# EAGLE library part OLIMEX_IC_PCF8563 (library A13-OLinuXino_WIFI_Rev_G)
Real-time clock/calendar
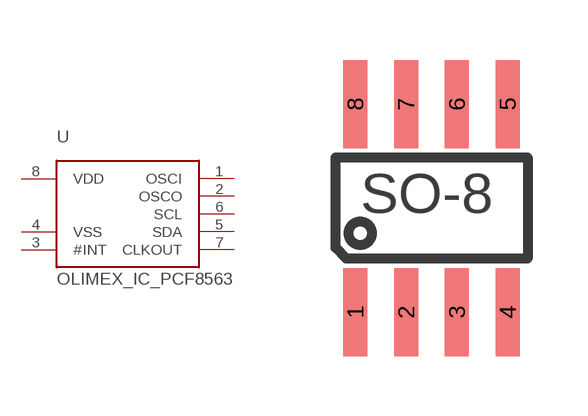
[diagram p12: symbol with the pads of OLIMEX_IC_SO-8; footprint OLIMEX_IC_SO-8]

Designator prefix U

## OLIMEX_IC_PCF8563  [OLIMEX_IC_SO-8]
1  OSCI  in
2  OSCO  out
3  #INT  out
4  VSS  pwr
5  SDA
6  SCL  in
7  CLKOUT  out
8  VDD  pwr

## Footprint OLIMEX_IC_SO-8 (pad centres in mm)
SO-8 Pitch: 1.27mm; Pad Width: 0.6mm; Pad Length: 2.2mm; Pad Distance(out edge to out edge): 6.20mm; Dimensions:4.90x3.90mm;
smd 0.6 x 2.2: 1 -1.905,-2.6; 2 -0.635,-2.6; 3 0.635,-2.6; 4 1.905,-2.6; 5 1.905,2.6; 6 0.635,2.6; 7 -0.635,2.6; 8 -1.905,2.6